# Altium footprint library XSTR.PcbLib: 36 footprints (part 3 of 3)
Each footprint in its own frame and in the unit in brackets; x right, y up, seen from the top. Pads: shape width x height; smd on the part's side, far side on the other; paste and mask are expansions set on the pad; w line width, h text height; cw(c..) or ccw(c..) is an arc to the next point about the centre after c.
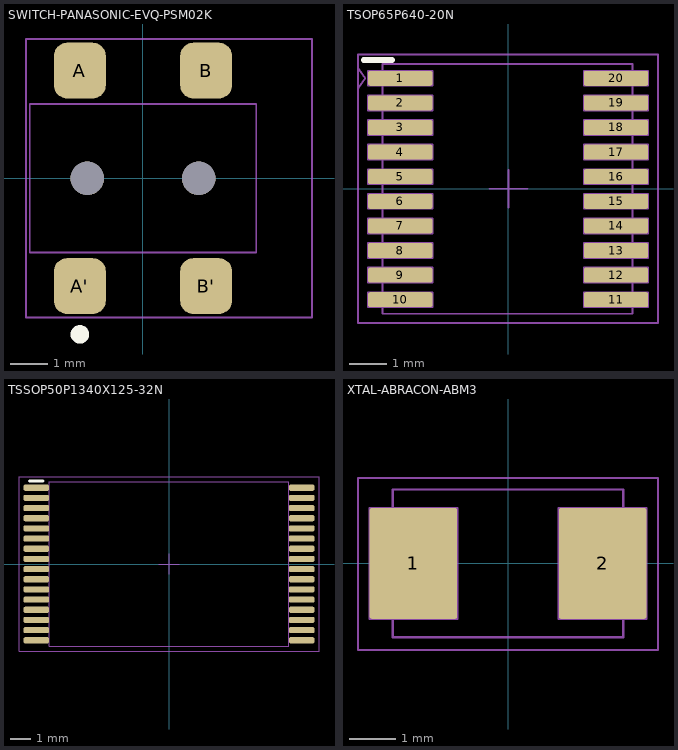
[diagram p2: the footprints below, top view; thin cyan lines are the x and y axes]

## SWITCH-PANASONIC-EVQ-PSM02K [mm]
pads (6):
  rrect50% 1.4x1.5 smd paste+0 mask+0.05: A(-1.7,2.9) A'(-1.7,-2.9) B(1.7,2.9) B'(1.7,-2.9)
  round 0.9 hole 0.9 unplated paste-2539.97 mask+0: ""(-1.5,0) ""(1.5,0)
Top Overlay:
  circle w0.25: c-1.7,-4.2 r0.125
Top 3D Body:
  lines w0.05: -3.05,-2 3.05,-2 3.05,2 -3.05,2 -3.05,-2
Bottom Courtyard:
  lines w0.05: -3.15,-3.75 4.55,-3.75 4.55,3.75 -3.15,3.75 -3.15,-3.75
Top Assembly:
  lines w0.05: -3.15,-3.75 4.55,-3.75 4.55,3.75 -3.15,3.75 -3.15,-3.75
3D body "Switch_Panasonic_Electronic_Components_EVQ-PSM02K_eec.STEP": height 0.25, standoff 0, extent -3.15,-3.75 4.55,3.75

## TSOP65P640-20N [mm] "TSOP65P640 20N"
height 1.79
pads (20):
  rrect25% 1.7x0.395 smd mask+0.075: 1(-2.859,2.92) 2(-2.859,2.27) 3(-2.859,1.62) 4(-2.859,0.97) 5(-2.859,0.32) 6(-2.859,-0.33) 7(-2.859,-0.98) 8(-2.859,-1.63) 9(-2.859,-2.28) 10(-2.859,-2.93) 11(2.841,-2.93) 12(2.841,-2.28) 13(2.841,-1.63) 14(2.841,-0.98) 15(2.841,-0.33) 16(2.841,0.32) 17(2.841,0.97) 18(2.841,1.62) 19(2.841,2.27) 20(2.841,2.92)
Top Overlay:
  lines w0.152: -3.825,3.4 -3.075,3.4
Top Courtyard:
  lines w0.05: -3.975,2.647 -3.784,2.92 -3.975,3.192 ; -0.5,0 0,0 ; 0,-0.5 0,0 ; 0,0.5 0,0 ; 0.5,0 0,0 ; -3.975,-3.55 -3.975,3.55 3.95,3.55 3.95,-3.55 -3.975,-3.55
Top Assembly:
  lines w0.05: -3.709,-3.128 -3.709,-2.733 -2.009,-2.733 -2.009,-3.128 -3.709,-3.128 ; -3.709,-2.478 -3.709,-2.083 -2.009,-2.083 -2.009,-2.478 -3.709,-2.478 ; -3.709,-1.828 -3.709,-1.433 -2.009,-1.433 -2.009,-1.828 -3.709,-1.828 ; -3.709,-1.178 -3.709,-0.783 -2.009,-0.783 -2.009,-1.178 -3.709,-1.178 ; -3.709,-0.528 -3.709,-0.133 -2.009,-0.133 -2.009,-0.528 -3.709,-0.528 ; -3.709,0.122 -3.709,0.517 -2.009,0.517 -2.009,0.122 -3.709,0.122 ; -3.709,0.772 -3.709,1.167 -2.009,1.167 -2.009,0.772 -3.709,0.772 ; -3.709,1.422 -3.709,1.817 -2.009,1.817 -2.009,1.422 -3.709,1.422 ; -3.709,2.072 -3.709,2.467 -2.009,2.467 -2.009,2.072 -3.709,2.072 ; -3.709,2.722 -3.709,3.117 -2.009,3.117 -2.009,2.722 -3.709,2.722 ; -3.325,-3.3 -3.325,3.3 3.275,3.3 3.275,-3.3 -3.325,-3.3 ; 1.991,-3.128 1.991,-2.733 3.691,-2.733 3.691,-3.128 1.991,-3.128 ; 1.991,-2.478 1.991,-2.083 3.691,-2.083 3.691,-2.478 1.991,-2.478 ; 1.991,-1.828 1.991,-1.433 3.691,-1.433 3.691,-1.828 1.991,-1.828 ; 1.991,-1.178 1.991,-0.783 3.691,-0.783 3.691,-1.178 1.991,-1.178 ; 1.991,-0.528 1.991,-0.133 3.691,-0.133 3.691,-0.528 1.991,-0.528 ; 1.991,0.122 1.991,0.517 3.691,0.517 3.691,0.122 1.991,0.122 ; 1.991,0.772 1.991,1.167 3.691,1.167 3.691,0.772 1.991,0.772 ; 1.991,1.422 1.991,1.817 3.691,1.817 3.691,1.422 1.991,1.422 ; 1.991,2.072 1.991,2.467 3.691,2.467 3.691,2.072 1.991,2.072 ; 1.991,2.722 1.991,3.117 3.691,3.117 3.691,2.722 1.991,2.722
  text "1" at -3.709,2.722 h0.3
3D body "SW3dPS-TSOP_20.step": height 1.79, standoff -0.05, extent -3.325,-3.3 3.275,3.3

## TSSOP50P1340X125-32N [mm] "TSSOP, 32-Leads, Body 8.10x11.80mm, Pitch 0.50mm, IPC Medium Density"
height 1.25
pads (32):
  rrect50% 1.25x0.3 smd mask+0.05: 1(-6.525,3.75) 2(-6.525,3.25) 3(-6.525,2.75) 4(-6.525,2.25) 5(-6.525,1.75) 6(-6.525,1.25) 7(-6.525,0.75) 8(-6.525,0.25) 9(-6.525,-0.25) 10(-6.525,-0.75) 11(-6.525,-1.25) 12(-6.525,-1.75) 13(-6.525,-2.25) 14(-6.525,-2.75) 15(-6.525,-3.25) 16(-6.525,-3.75) 17(6.525,-3.75) 18(6.525,-3.25) 19(6.525,-2.75) 20(6.525,-2.25) 21(6.525,-1.75) 22(6.525,-1.25) 23(6.525,-0.75) 24(6.525,-0.25) 25(6.525,0.25) 26(6.525,0.75) 27(6.525,1.25) 28(6.525,1.75) 29(6.525,2.25) 30(6.525,2.75) 31(6.525,3.25) 32(6.525,3.75)
Top Overlay:
  lines w0.15: -6.85,4.075 -6.2,4.075
Top Courtyard:
  lines w0.05: -0.5,0 0.5,0 ; 0,-0.5 0,0.5 ; -7.375,-4.3 -7.375,4.3 7.375,4.3 7.375,-4.3 -7.375,-4.3
Top Assembly:
  lines w0.05: -5.9,-4.05 -5.9,4.05 5.9,4.05 5.9,-4.05 -5.9,-4.05
3D body "TSSOP50P1340X125-32N.step": height 1.25, standoff 0, extent -6.7,-4.05 6.7,4.05

## XTAL-ABRACON-ABM3 [mm]
pads (2):
  rrect5% 1.9x2.4 smd mask+0.05: 1(-2.05,0) 2(2.05,0)
Top Courtyard:
  lines w0.05: -3.25,-1.875 3.25,-1.875 3.25,1.85 -3.25,1.85 -3.25,-1.875
Top Assembly:
  lines w0.05: 0,1.6 0,1.6 ; 0,1.6 2.5,1.6 2.5,-1.6 -2.5,-1.6 -2.5,1.6 0,1.6 ; -3,-1.2 -1.1,-1.2 -1.1,1.2 -2.05,1.2 -3,1.2 -3,-1.2 ; 1.1,-1.2 3,-1.2 3,1.2 2.05,1.2 1.1,1.2 1.1,-1.2
3D body "ABM3-18.432MHZ-B2-T.step": height 1.31, standoff 0.01, extent -2.5,-1.6 2.5,1.6